# EAGLE library part DLD101 (library jpnewman)
LED Driver; Constant Current
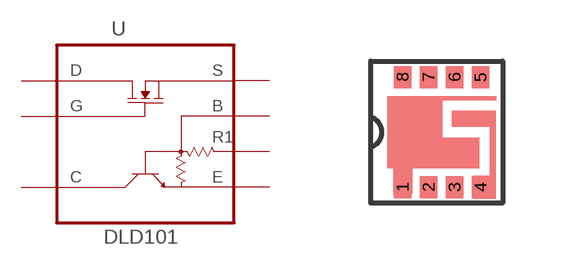
[diagram p9: symbol with the pads of DLD101; footprint DLD101]

Designator prefix -

## DLD101  [DLD101]
1  D  pwr
2  G  pas
4  C  pas
5  E  out
6  R1  out
7  B  out
8  S  out

## Footprint DLD101 (pad centres in mm)
smd 0.44 x 0.55: 1 -0.975,-1.375; 2 -0.325,-1.375; 3 0.325,-1.375; 4 0.975,-1.375; 5 0.975,1.375; 6 0.325,1.375; 7 -0.325,1.375; 8 -0.975,1.375